# Altium footprint library LPEDT_Component.PcbLib: 49 footprints (part 1 of 4)
Each footprint in its own frame and in the unit in brackets; x right, y up, seen from the top. Pads: shape width x height; smd on the part's side, far side on the other; paste and mask are expansions set on the pad; w line width, h text height; cw(c..) or ccw(c..) is an arc to the next point about the centre after c.
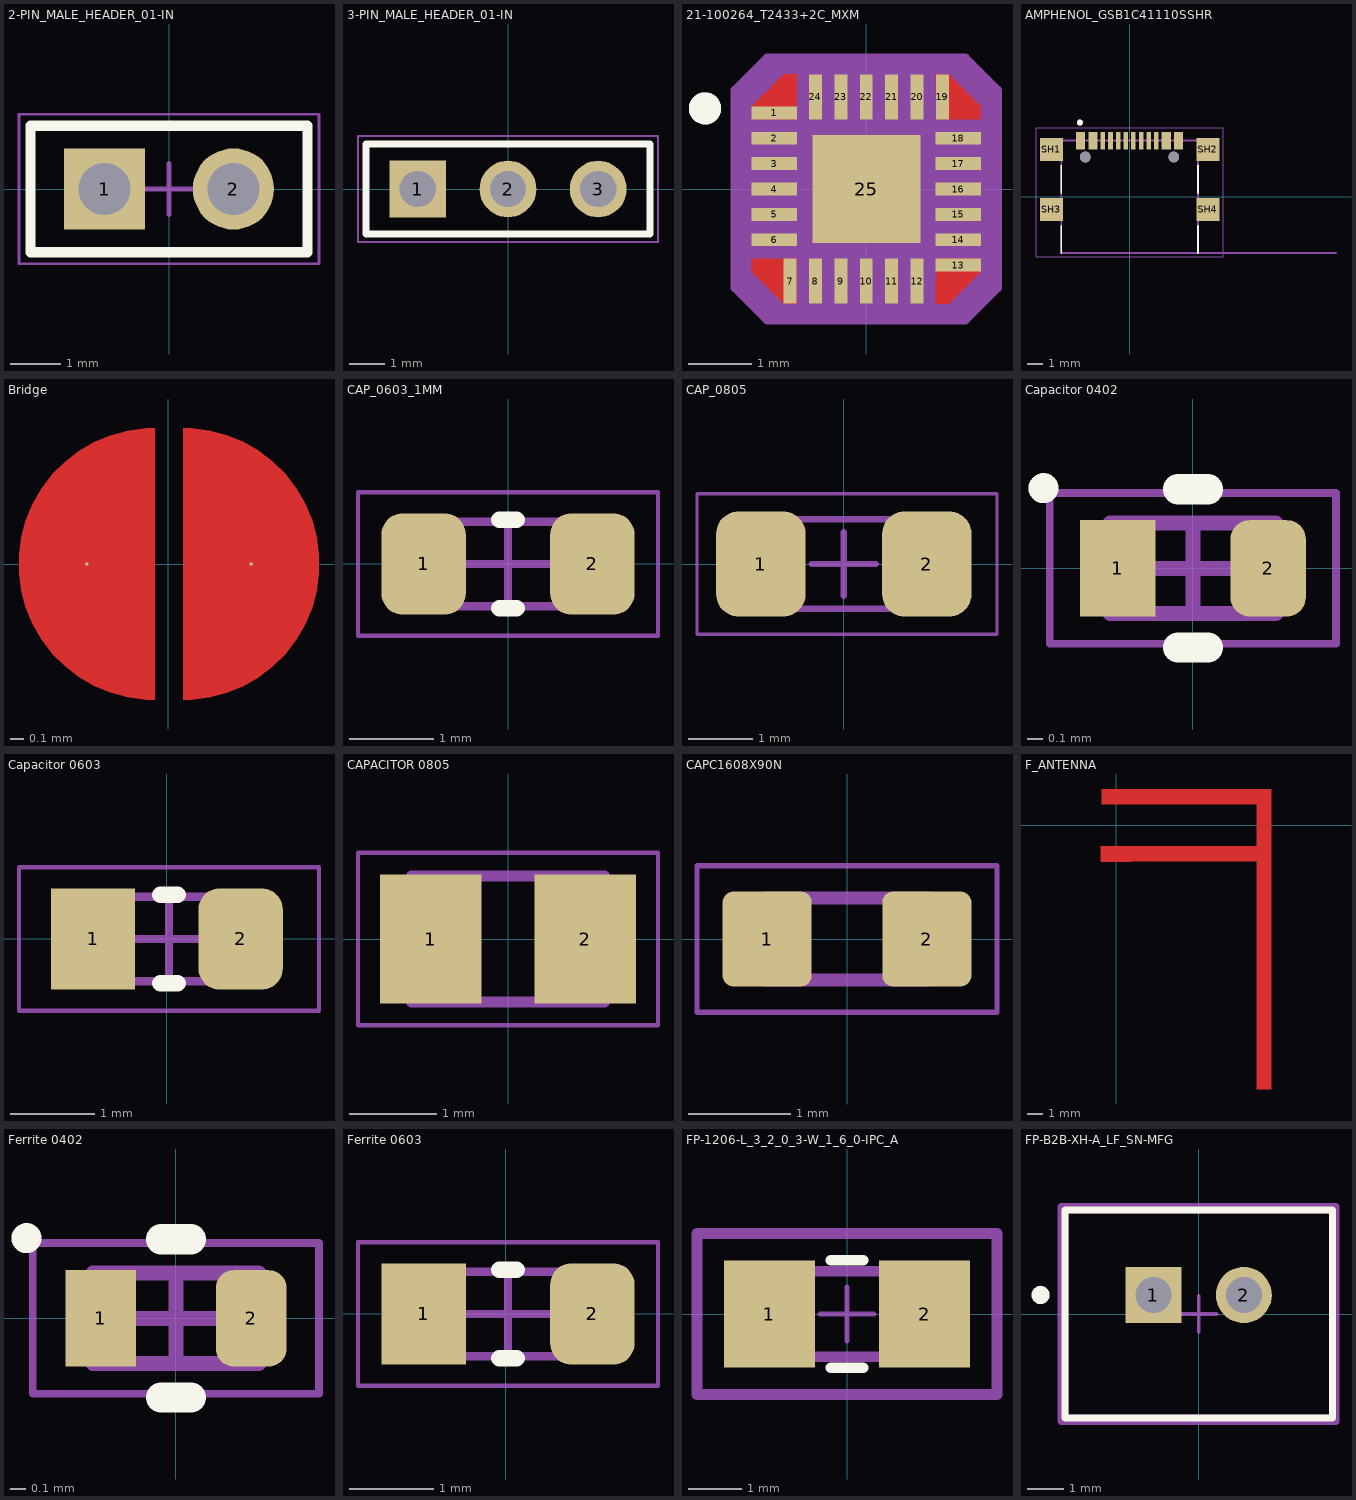
[diagram p0: the footprints below, top view; thin cyan lines are the x and y axes]

## 2-PIN_MALE_HEADER_01-IN [mm] "Terminal Assembly, 1x2 Pins, Vertical, 2.54mm Pitch, Male"
height 6.02
pads (2):
  rect 1.6x1.6 hole 1.02: 1(-1.27,0)
  round 1.6 hole 1.02: 2(1.27,0)
Top Overlay:
  lines w0.2: -2.73,-1.245 -2.73,1.245 2.73,1.245 2.73,-1.245 -2.73,-1.245
Mechanical 13:
  lines w0.1: -2.73,1.245 -2.73,-1.245 2.73,-1.245 2.73,1.245 -2.73,1.245
  text ".Designator" at -1.524,-0.635 h1.3
Mechanical 15:
  lines w0.05: -2.955,-1.47 -2.955,1.47 2.955,1.47 2.955,-1.47 -2.955,-1.47
  lines w0.1: -0.5,0 0.5,0 ; 0,-0.5 0,0.5
3D body "User Library-Header_Male_2Pin.STEP": height 8.54, standoff -3, extent -2.54,-1.22 2.54,1.27

## 3-PIN_MALE_HEADER_01-IN [mm]
pads (3):
  rect 1.6x1.6 hole 1.02: 1(-2.54,0)
  round 1.6 hole 1.02: 2(0,0) 3(2.54,0)
Top Overlay:
  lines w0.2: -4,-1.27 4,-1.27 4,1.27 -4,1.27 -4,-1.27
Mechanical 13:
  lines w0.1: -4,-1.27 4,-1.27 4,1.27 -4,1.27 -4,-1.27
  text ".Designator" at -1.524,-0.635 h1.3
Mechanical 15:
  lines w0.05: -4.225,-1.495 4.225,-1.495 4.225,1.495 -4.225,1.495 -4.225,-1.495
  lines w0.1: -0.5,0 0.5,0 ; 0,-0.5 0,0.5
3D body "User Library-Header_Male_3Pin.STEP": height 8.54, standoff -3, extent -3.81,-1.27 3.81,1.22

## 21-100264_T2433+2C_MXM [mil]
pads (25):
  rect 28x8 smd paste+0 mask+0: 1(-57.09,47.24) 2(-57.09,31.5) 3(-57.09,15.75) 4(-57.09,0) 5(-57.09,-15.75) 6(-57.09,-31.5) 13(57.09,-47.24) 14(57.09,-31.5) 15(57.09,-15.75) 16(57.09,0) 17(57.09,15.75) 18(57.09,31.5)
  rect 8x28 smd paste+0 mask+0: 7(-47.24,-57.09) 8(-31.5,-57.09) 9(-15.75,-57.09) 10(0,-57.09) 11(15.75,-57.09) 12(31.5,-57.09) 19(47.24,57.09) 20(31.5,57.09) 21(15.75,57.09) 22(0,57.09) 23(-15.75,57.09) 24(-31.5,57.09)
  rect 67x67 smd paste+0 mask+0: 25(0,0)
Top Layer:
  region: -51.24,71.09 -43.24,71.09 -43.24,43.24 -71.09,43.24 -71.09,51.24
  region: -71.09,-51.24 -71.09,-43.24 -43.09,-43.24 -43.24,-71.09 -51.24,-71.09
  region: 51.24,-71.09 43.24,-71.09 43.25,-43.25 71.09,-43.24 71.09,-51.24
  region: 51.24,71.09 43.24,71.09 43.25,43.24 71.09,43.24 71.09,51.24
Top Overlay:
  circle w10: c-100,50 r5
Top Paste:
  region: -51.24,71.09 -43.24,71.09 -43.24,43.24 -71.09,43.24 -71.09,51.24
  region: -71.09,-51.24 -71.09,-43.24 -43.09,-43.24 -43.24,-71.09 -51.24,-71.09
  region: 51.24,-71.09 43.24,-71.09 43.25,-43.25 71.09,-43.24 71.09,-51.24
  region: 51.24,71.09 43.24,71.09 43.25,43.24 71.09,43.24 71.09,51.24
Top Solder:
  region: -71.09,-51.24 -71.09,-43.24 -43.09,-43.24 -43.24,-71.09 -51.24,-71.09
  region: 51.24,71.09 43.24,71.09 43.25,43.24 71.09,43.24 71.09,51.24
  region: -51.24,71.09 -43.24,71.09 -43.24,43.24 -71.09,43.24 -71.09,51.24
  region: 51.24,-71.09 43.24,-71.09 43.25,-43.25 71.09,-43.24 71.09,-51.24
Mechanical 13:
  circle w10: c-100,50 r5
  lines w1: -59,9 -9,59 ; -59,-59 -59,59 59,59 59,-59 -59,-59
Mechanical 15:
  region: 61.24,81.09 -61.24,81.09 -81.09,61.24 -81.09,-61.24 -61.24,-81.09 61.24,-81.09 81.09,-61.24 81.09,61.24
  lines w6: -33.5,-81.09 61.24,-81.09 81.09,-61.24 81.09,-33.24 81.09,61.24 61.24,81.09 33.24,81.09 -61.24,81.09 -81.09,61.24 -81.09,33.24 -81.09,-61.24 -61.24,-81.09 -33.24,-81.09

## AMPHENOL_GSB1C41110SSHR [mm]
height 3.21
pads (18):
  rect 0.6x1.15 smd mask+0.05: A1_B12(-3.2,3.68) A4_B9(-2.4,3.68) B1_A12(3.2,3.68) B4_A9(2.4,3.68)
  rect 0.3x1.15 smd mask+0.05: A5(-1.25,3.68) A6(-0.25,3.68) A7(0.25,3.68) A8(1.25,3.68) B5(1.75,3.68) B6(0.75,3.68) B7(-0.75,3.68) B8(-1.75,3.68)
  rect 1.5x1.5 smd: SH1(-5.12,3.105) SH2(5.12,3.105) SH3(-5.12,-0.825) SH4(5.12,-0.825)
  round 0.7 hole 0.7 unplated: ""(-2.89,2.605) ""(2.89,2.605)
Top Overlay:
  circle w0.2: c-3.25,4.855 r0.1
  lines w0.127: -4.47,-3.675 -4.47,-1.889 ; -4.47,0.239 -4.47,2.041 ; 4.47,-3.675 4.47,-1.889 ; 4.47,0.239 4.47,2.041
Mechanical 13:
  circle w0.2: c-3.25,4.855 r0.1
  lines w0.127: 13.5,-3.675 4.47,-3.675 ; 4.47,-3.675 4.47,3.675 -4.47,3.675 -4.47,-3.675 4.47,-3.675
  text "PCB EDGE" at 6.35,-3.427 h1
Mechanical 15:
  lines w0.05: -6.12,-3.925 6.12,-3.925 6.12,4.505 -6.12,4.505 -6.12,-3.925
3D body "step_temp.STEP": height 1.58, standoff -2.3, extent -5.92,-2.048 5.42,5.55

## Bridge [mil]
pads (2):
  round 1 smd paste-99999 mask-39.37: 1(-23.62,0) 2(24,0)
Top Layer:
  region: 4.32,39.37 6.9,39.37 12.01,38.7 17,37.36 21.77,35.39 26.23,32.81 30.33,29.66 33.98,26.01 37.12,21.92 39.7,17.45 41.68,12.68 43.01,7.7 43.69,2.58 43.69,-2.58 43.01,-7.7 41.68,-12.68 39.7,-17.45 37.12,-21.92 33.98,-26.01 30.33,-29.66 26.23,-32.81 21.77,-35.39 17,-37.36 12.01,-38.7 6.9,-39.37 4.32,-39.37 4.31,-39.37
  region: -3.94,-39.37 -6.52,-39.37 -11.63,-38.7 -16.62,-37.36 -21.39,-35.39 -25.86,-32.81 -29.95,-29.66 -33.6,-26.01 -36.74,-21.92 -39.32,-17.45 -41.3,-12.68 -42.63,-7.7 -43.31,-2.58 -43.31,2.58 -42.63,7.7 -41.3,12.68 -39.32,17.45 -36.74,21.92 -33.6,26.01 -29.95,29.66 -25.86,32.81 -21.39,35.39 -16.62,37.36 -11.63,38.7 -6.52,39.37 -3.94,39.37

## CAP_0603_1MM [mm]
pads (2):
  rrect50% 1x1.2 smd: 1(-1,0) 2(1,0)
Top Overlay:
  lines w0.2: -0.1,-0.525 0.1,-0.525 ; -0.1,0.525 0.1,0.525
Mechanical 13:
  lines w0.1: -0.9,-0.5 -0.9,0.5 0.9,0.5 0.9,-0.5 -0.9,-0.5
  text ".Designator" at -0.723,-0.254 h0.5
Mechanical 15:
  lines w0.05: -1.778,-0.85 -1.778,0.85 1.778,0.85 1.778,-0.85 -1.778,-0.85
  lines w0.1: -0.5,0 0.5,0 ; 0,-0.5 0,0.5
3D body "CAP_0603_1608X10.step": height 1, standoff 0, extent -0.9,-0.5 0.9,0.5

## CAP_0805 [mm]
pads (2):
  rrect50% 1.4x1.65 smd: 1(-1.3,0) 2(1.3,0)
Mechanical 13:
  lines w0.1: -1.075,-0.7 1.075,-0.7 1.075,0.7 -1.075,0.7 -1.075,-0.7
  text ".Designator" at -0.67,-0.203 h0.5
Mechanical 15:
  lines w0.05: -2.3,-1.1 2.4,-1.1 2.4,-0.55 2.4,0.55 2.4,1.1 -2.3,1.1 -2.3,0.55 -2.3,-0.55 -2.3,-1.1
  lines w0.1: -0.5,0 0.5,0 ; 0,-0.5 0,0.5
3D body "CAP_0805.step": height 1.4, standoff 0, extent -1.075,-0.7 1.075,0.7

## Capacitor 0402 [mm]
height 0.55
pads (2):
  rect 0.5x0.64 smd: 1(-0.5,0)
  rrect50% 0.5x0.64 smd: 2(0.5,0)
Top Overlay:
  circle w0.1: c-0.992,0.532 r0.05
  lines w0.2: -0.1,-0.525 0.1,-0.525 ; -0.1,0.525 0.1,0.525
  text ".Designator" at 0.886,1.448 h1
Mechanical 13:
  lines w0.1: -0.55,-0.3 -0.55,0.3 0.55,0.3 0.55,-0.3 -0.55,-0.3
  text ".Designator" at -0.55,-0.3 h0.4
Mechanical 15:
  lines w0.05: -0.95,-0.5 -0.95,0.5 0.95,0.5 0.95,-0.5 -0.95,-0.5
  lines w0.1: -0.3,0 0.3,0 ; 0,-0.3 0,0.3
3D body "step_temp.STEP": height 0.55, standoff 0, extent -0.5,-0.25 0.5,0.25

## Capacitor 0603 [mm] "Chip Capacitor, 2-Leads, Body 1.60x0.80mm, IPC Medium Density"
height 0.55
pads (2):
  rect 1x1.2 smd: 1(-0.875,0)
  rrect50% 1x1.2 smd: 2(0.875,0)
Top Overlay:
  lines w0.2: -0.075,-0.525 0.125,-0.525 ; -0.075,0.525 0.125,0.525
Mechanical 13:
  lines w0.1: -0.875,-0.5 0.925,-0.5 0.925,0.5 -0.875,0.5 -0.875,-0.5
  text ".Designator" at -0.875,-0.5 h0.4
Mechanical 15:
  lines w0.05: -1.753,-0.85 1.803,-0.85 1.803,0.85 -1.753,0.85 -1.753,-0.85
  lines w0.1: -0.475,0 0.525,0 ; 0.025,-0.5 0.025,0.5
3D body "CAP_0603_1608X10.step": height 1, standoff 0, extent -0.875,-0.5 0.925,0.5

## CAPACITOR 0805 [mm]
pads (2):
  rect 1.16x1.47 smd: 1(-0.88,0) 2(0.88,0)
Mechanical 13:
  lines w0.127: -1.1,-0.72 1.1,-0.72 1.1,0.72 -1.1,0.72 -1.1,-0.72
Mechanical 15:
  lines w0.05: -1.713,-0.983 1.713,-0.983 1.713,0.983 -1.713,0.983 -1.713,-0.983

## CAPC1608X90N [mm]
pads (2):
  rrect25% 0.87x0.93 smd: 1(-0.78,0) 2(0.78,0)
Mechanical 13:
  lines w0.127: -0.8,-0.4 -0.8,0.4 0.8,0.4 0.8,-0.4 -0.8,-0.4
Mechanical 15:
  lines w0.05: -1.465,-0.715 -1.465,0.715 1.465,0.715 1.465,-0.715 -1.465,-0.715
3D body "step_temp.STEP": height 0.9, standoff 0, extent -0.8,-0.4 0.8,0.4

## F_ANTENNA [mil]
pads (2):
  round 1 smd mask-99999: FEED(-1.5,-74.5) GND(1.5,74.5)
Top Layer:
  region: 38.7,54.72 366.5,54.72 366.5,94.29 38.7,94.29
  region: 35.71,-94.28 366.5,-94.3 366.5,-54.7 35.71,-54.7
  region: 365.7,-687.5 365.7,94.08 404.3,94.08 404.3,-687.5
  region: -37.98,54.5 -37.98,94.5 40.98,94.5 40.98,54.5
  region: -40.98,-94.5 -40.98,-54.5 37.98,-54.5 37.98,-94.5
Top Solder:
  region: -37.98,54.5 -37.98,94.5 40.98,94.5 40.98,54.5
  region: -40.98,-94.5 -40.98,-54.5 37.98,-54.5 37.98,-94.5

## Ferrite 0402 [mm]
height 0.55
pads (2):
  rect 0.47x0.64 smd: 1(-0.5,0)
  rrect50% 0.47x0.64 smd: 2(0.5,0)
Top Overlay:
  circle w0.1: c-0.992,0.532 r0.05
  lines w0.2: -0.1,-0.525 0.1,-0.525 ; -0.1,0.525 0.1,0.525
Mechanical 13:
  lines w0.1: -0.55,-0.3 0.55,-0.3 0.55,0.3 -0.55,0.3 -0.55,-0.3
  text ".Designator" at -0.55,-0.3 h0.4
Mechanical 15:
  lines w0.05: -0.95,-0.5 0.95,-0.5 0.95,0.5 -0.95,0.5 -0.95,-0.5
  lines w0.1: -0.3,0 0.3,0 ; 0,-0.3 0,0.3
3D body "Chip2PinSM127P600-8N.step": height 0.55, standoff 0, extent -0.55,-0.3 0.55,0.3

## Ferrite 0603 [mm] "EFR32bg13- / RFVDD, PAVDD"
height 0.55
pads (2):
  rect 1x1.2 smd: 1(-0.975,0)
  rrect50% 1x1.2 smd: 2(1.025,0)
Top Overlay:
  lines w0.2: -0.075,-0.525 0.125,-0.525 ; -0.075,0.525 0.125,0.525
Mechanical 13:
  lines w0.1: -0.875,-0.5 -0.875,0.5 0.925,0.5 0.925,-0.5 -0.875,-0.5
  text ".Designator" at -0.875,-0.5 h0.4
Mechanical 15:
  lines w0.05: -1.753,-0.85 -1.753,0.85 1.803,0.85 1.803,-0.85 -1.753,-0.85
  lines w0.1: -0.475,0 0.525,0 ; 0.025,-0.5 0.025,0.5
3D body "CAP_0603_1608X10.step": height 1, standoff 0, extent -0.875,-0.5 0.925,0.5

## FP-1206-L_3_2_0_3-W_1_6_0-IPC_A [mm]
pads (2):
  rect 1.703x2.004 smd paste+0 mask+0: 1(-1.45,0) 2(1.45,0)
Top Overlay:
  lines w0.2: -0.299,-1.002 0.299,-1.002 ; -0.299,1.002 0.299,1.002
Top 3D Body:
  lines w0.2: -1.6,-0.8 1.6,-0.8 1.6,0.8 -1.6,0.8 -1.6,-0.8
Top Courtyard:
  lines w0.2: -2.802,-1.502 2.802,-1.502 2.802,1.502 -2.802,1.502 -2.802,-1.502
Top Assembly:
  lines w0.2: -2.802,-1.502 2.802,-1.502 2.802,1.502 -2.802,1.502 -2.802,-1.502
  text ".Designator" at 0,0.188 h1
Top Component Center:
  lines w0.1: -0.5,0 0.5,0 ; 0,-0.5 0,0.5
3D body "Cap_Taiyo_Yuden_UMK316BBJ106ML-T_eec.STEP": height 0.25, standoff 0, extent -2.802,-1.502 2.802,1.502

## FP-B2B-XH-A_LF_SN-MFG [mm]
pads (2):
  rect 1.55x1.55 hole 1 paste-2539.97 mask+0: 1(-1.25,0.525)
  round 1.55 hole 1 paste-2539.97 mask+0: 2(1.25,0.525)
Top Overlay:
  circle w0.25: c-4.375,0.525 r0.125
  lines w0.2: -3.7,-2.875 -3.7,2.875 3.7,2.875 3.7,-2.875 -3.7,-2.875
Top 3D Body:
  lines w0.2: -3.7,-2.875 -3.7,2.875 3.7,2.875 3.7,-2.875 -3.7,-2.875
Top Courtyard:
  lines w0.2: -3.8,-2.975 -3.8,2.975 3.8,2.975 3.8,-2.975 -3.8,-2.975
Top Assembly:
  lines w0.2: -3.8,-2.975 -3.8,2.975 3.8,2.975 3.8,-2.975 -3.8,-2.975
  text ".Designator" at 0,0.188 h1
Top Component Center:
  lines w0.1: -0.5,0 0.5,0 ; 0,-0.5 0,0.5
3D body "Conn_JST_B2B-XH-A_LF_SN_eec.STEP": height 0.25, standoff 0, extent -3.8,-2.975 3.8,2.975